# Altium footprint library Temperature Sensor.PcbLib: 38 footprints (part 2 of 3)
Each footprint in its own frame and in the unit in brackets; x right, y up, seen from the top. Pads: shape width x height; smd on the part's side, far side on the other; paste and mask are expansions set on the pad; w line width, h text height; cw(c..) or ccw(c..) is an arc to the next point about the centre after c.
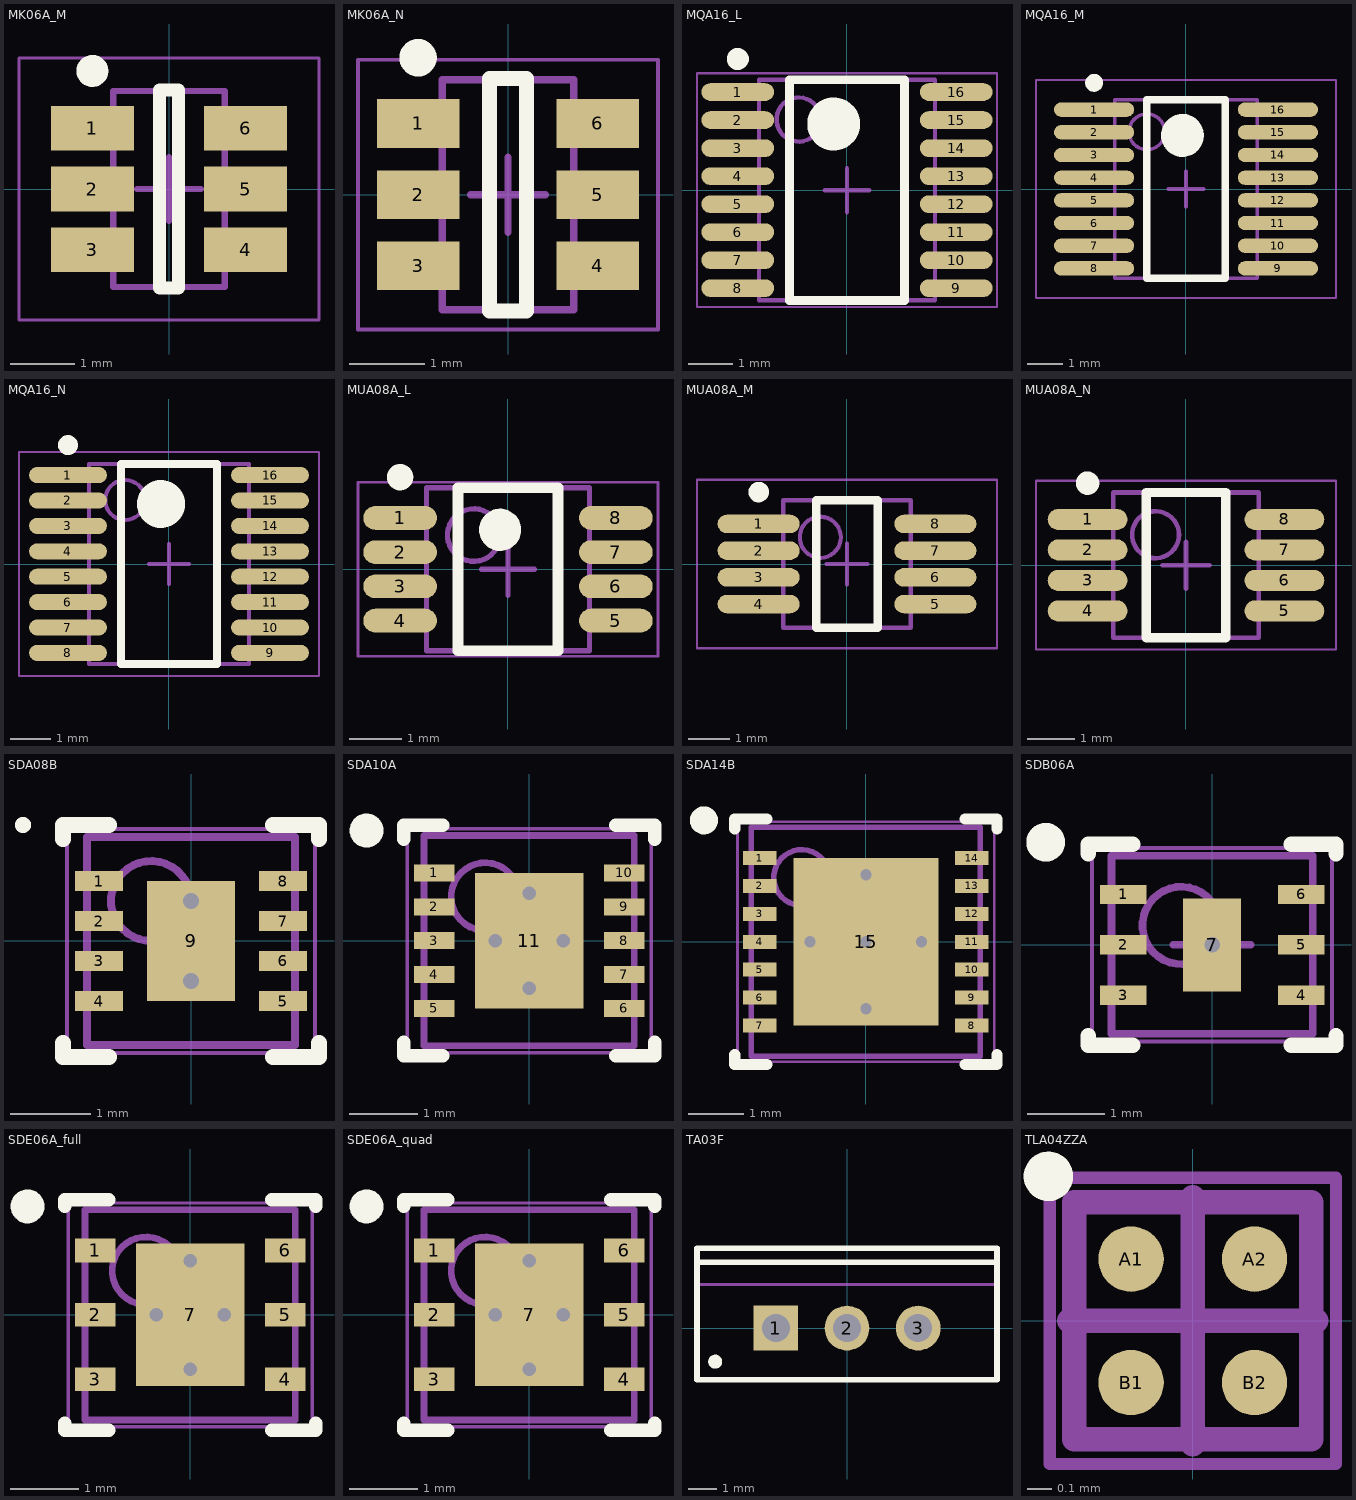
[diagram p1: the footprints below, top view; thin cyan lines are the x and y axes]

## MK06A_M [mm] "SOT23, 6-Leads, Body 3.0x1.7mm, Pitch 0.95mm, Lead Span 2.9mm, IPC Low Density"
height 1
pads (6):
  rect 1.3x0.7 smd: 1(-1.2,0.95) 2(-1.2,0) 3(-1.2,-0.95) 4(1.2,-0.95) 5(1.2,0) 6(1.2,0.95)
Top Overlay:
  circle w0.25: c-1.2,1.85 r0.125
  lines w0.2: -0.15,-1.55 -0.15,1.55 0.15,1.55 0.15,-1.55 -0.15,-1.55
Mechanical 13:
  lines w0.1: -0.875,-1.535 0.875,-1.535 0.875,1.535 -0.875,1.535 -0.875,-1.535
Mechanical 15:
  lines w0.05: -2.35,-2.05 2.35,-2.05 2.35,2.05 -2.35,2.05 -2.35,-2.05
  lines w0.1: -0.5,0 0.5,0 ; 0,-0.5 0,0.5
3D body: height 1, standoff 0.01, extent -0.875,-1.535 0.875,1.535

## MK06A_N [mm] "SOT23, 6-Leads, Body 3.0x1.7mm, Pitch 0.95mm, Lead Span 2.9mm, IPC Medium Density"
height 1
pads (6):
  rect 1.1x0.65 smd: 1(-1.2,0.95) 2(-1.2,0) 3(-1.2,-0.95) 4(1.2,-0.95) 5(1.2,0) 6(1.2,0.95)
Top Overlay:
  circle w0.25: c-1.2,1.825 r0.125
  lines w0.2: -0.25,-1.55 -0.25,1.55 0.25,1.55 0.25,-1.55 -0.25,-1.55
Mechanical 13:
  lines w0.1: -0.875,-1.535 0.875,-1.535 0.875,1.535 -0.875,1.535 -0.875,-1.535
Mechanical 15:
  lines w0.05: -2,-1.8 2,-1.8 2,1.8 -2,1.8 -2,-1.8
  lines w0.1: -0.5,0 0.5,0 ; 0,-0.5 0,0.5
3D body: height 1, standoff 0.01, extent -0.875,-1.535 0.875,1.535

## MQA16_L [mm] "SOP, 16-Leads, Body 4.9x3.9mm, Pitch 0.635mm, IPC High Density"
height 1.73
pads (16):
  oval 1.65x0.4 smd: 1(-2.475,2.222) 2(-2.475,1.587) 3(-2.475,0.953) 4(-2.475,0.318) 5(-2.475,-0.318) 6(-2.475,-0.953) 7(-2.475,-1.587) 8(-2.475,-2.222) 9(2.475,-2.222) 10(2.475,-1.587) 11(2.475,-0.953) 12(2.475,-0.318) 13(2.475,0.318) 14(2.475,0.953) 15(2.475,1.587) 16(2.475,2.222)
Top Overlay:
  circle w0.6: c-0.3,1.5 r0.3
  circle w0.25: c-2.475,2.973 r0.125
  lines w0.2: -1.3,-2.5 1.3,-2.5 1.3,2.5 -1.3,2.5 -1.3,-2.5
Mechanical 13:
  circle w0.1: c-1.095,1.6 r0.5
  lines w0.1: -1.995,-2.5 1.995,-2.5 1.995,2.5 -1.995,2.5 -1.995,-2.5
Mechanical 15:
  lines w0.05: -3.4,-2.65 3.4,-2.65 3.4,2.65 -3.4,2.65 -3.4,-2.65
  lines w0.1: -0.5,0 0.5,0 ; 0,-0.5 0,0.5
3D body: height 1.73, standoff 0.25, extent -1.995,-2.5 1.995,2.5

## MQA16_M [mm] "SOP, 16-Leads, Body 4.9x3.9mm, Pitch 0.635mm, IPC Low Density"
height 1.73
pads (16):
  oval 2.25x0.4 smd: 1(-2.575,2.222) 2(-2.575,1.587) 3(-2.575,0.953) 4(-2.575,0.318) 5(-2.575,-0.318) 6(-2.575,-0.953) 7(-2.575,-1.587) 8(-2.575,-2.222) 9(2.575,-2.222) 10(2.575,-1.587) 11(2.575,-0.953) 12(2.575,-0.318) 13(2.575,0.318) 14(2.575,0.953) 15(2.575,1.587) 16(2.575,2.222)
Top Overlay:
  circle w0.6: c-0.1,1.5 r0.3
  circle w0.25: c-2.575,2.973 r0.125
  lines w0.2: -1.1,-2.5 1.1,-2.5 1.1,2.5 -1.1,2.5 -1.1,-2.5
Mechanical 13:
  circle w0.1: c-1.095,1.6 r0.5
  lines w0.1: -1.995,-2.5 1.995,-2.5 1.995,2.5 -1.995,2.5 -1.995,-2.5
Mechanical 15:
  lines w0.05: -4.2,-3.05 4.2,-3.05 4.2,3.05 -4.2,3.05 -4.2,-3.05
  lines w0.1: -0.5,0 0.5,0 ; 0,-0.5 0,0.5
3D body: height 1.73, standoff 0.25, extent -1.995,-2.5 1.995,2.5

## MQA16_N [mm] "SOP, 16-Leads, Body 4.9x3.9mm, Pitch 0.635mm, IPC Medium Density"
height 1.73
pads (16):
  oval 1.95x0.4 smd: 1(-2.525,2.222) 2(-2.525,1.587) 3(-2.525,0.953) 4(-2.525,0.318) 5(-2.525,-0.318) 6(-2.525,-0.953) 7(-2.525,-1.587) 8(-2.525,-2.222) 9(2.525,-2.222) 10(2.525,-1.587) 11(2.525,-0.953) 12(2.525,-0.318) 13(2.525,0.318) 14(2.525,0.953) 15(2.525,1.587) 16(2.525,2.222)
Top Overlay:
  circle w0.6: c-0.2,1.5 r0.3
  circle w0.25: c-2.525,2.973 r0.125
  lines w0.2: -1.2,-2.5 1.2,-2.5 1.2,2.5 -1.2,2.5 -1.2,-2.5
Mechanical 13:
  circle w0.1: c-1.095,1.6 r0.5
  lines w0.1: -1.995,-2.5 1.995,-2.5 1.995,2.5 -1.995,2.5 -1.995,-2.5
Mechanical 15:
  lines w0.05: -3.75,-2.8 3.75,-2.8 3.75,2.8 -3.75,2.8 -3.75,-2.8
  lines w0.1: -0.5,0 0.5,0 ; 0,-0.5 0,0.5
3D body: height 1.73, standoff 0.25, extent -1.995,-2.5 1.995,2.5

## MUA08A_L [mm] "TSOP, 8-Leads, Body 3x3mm, Pitch 0.65mm, IPC High Density"
height 1.09
pads (8):
  oval 1.4x0.45 smd: 1(-2.05,0.975) 2(-2.05,0.325) 3(-2.05,-0.325) 4(-2.05,-0.975) 5(2.05,-0.975) 6(2.05,-0.325) 7(2.05,0.325) 8(2.05,0.975)
Top Overlay:
  circle w0.25: c-2.05,1.75 r0.125
  circle w0.4: c-0.15,0.75 r0.2
  lines w0.2: -0.95,-1.55 -0.95,1.55 0.95,1.55 0.95,-1.55 -0.95,-1.55
Mechanical 13:
  circle w0.1: c-0.65,0.65 r0.5
  lines w0.1: -1.55,-1.55 -1.55,1.55 1.55,1.55 1.55,-1.55 -1.55,-1.55
Mechanical 15:
  lines w0.05: -2.85,-1.65 -2.85,1.65 2.85,1.65 2.85,-1.65 -2.85,-1.65
  lines w0.1: -0.5,0 0.5,0 ; 0,-0.5 0,0.5
3D body: height 1.09, standoff 0.06, extent -1.55,-1.55 1.55,1.55

## MUA08A_M [mm] "TSOP, 8-Leads, Body 3x3mm, Pitch 0.65mm, IPC Low Density"
height 1.09
pads (8):
  oval 2x0.45 smd: 1(-2.15,0.975) 2(-2.15,0.325) 3(-2.15,-0.325) 4(-2.15,-0.975) 5(2.15,-0.975) 6(2.15,-0.325) 7(2.15,0.325) 8(2.15,0.975)
Top Overlay:
  circle w0.25: c-2.15,1.75 r0.125
  lines w0.2: -0.75,-1.55 0.75,-1.55 0.75,1.55 -0.75,1.55 -0.75,-1.55
Mechanical 13:
  circle w0.1: c-0.65,0.65 r0.5
  lines w0.1: -1.55,-1.55 1.55,-1.55 1.55,1.55 -1.55,1.55 -1.55,-1.55
Mechanical 15:
  lines w0.05: -3.65,-2.05 3.65,-2.05 3.65,2.05 -3.65,2.05 -3.65,-2.05
  lines w0.1: -0.5,0 0.5,0 ; 0,-0.5 0,0.5
3D body: height 1.09, standoff 0.06, extent -1.55,-1.55 1.55,1.55

## MUA08A_N [mm] "TSOP, 8-Leads, Body 3x3mm, Pitch 0.65mm, IPC Medium Density"
height 1.09
pads (8):
  oval 1.7x0.45 smd: 1(-2.1,0.975) 2(-2.1,0.325) 3(-2.1,-0.325) 4(-2.1,-0.975) 5(2.1,-0.975) 6(2.1,-0.325) 7(2.1,0.325) 8(2.1,0.975)
Top Overlay:
  circle w0.25: c-2.1,1.75 r0.125
  lines w0.2: -0.85,-1.55 -0.85,1.55 0.85,1.55 0.85,-1.55 -0.85,-1.55
Mechanical 13:
  circle w0.1: c-0.65,0.65 r0.5
  lines w0.1: -1.55,-1.55 -1.55,1.55 1.55,1.55 1.55,-1.55 -1.55,-1.55
Mechanical 15:
  lines w0.05: -3.2,-1.8 -3.2,1.8 3.2,1.8 3.2,-1.8 -3.2,-1.8
  lines w0.1: -0.5,0 0.5,0 ; 0,-0.5 0,0.5
3D body: height 1.09, standoff 0.06, extent -1.55,-1.55 1.55,1.55

## SDA08B [mm] "SON, 8-Leads, Body 2.5x2.5mm, Pitch 0.5mm, NSC Recommended"
height 0.8
pads (9):
  rect 0.6x0.25 smd paste-0.125 mask+0.051: 1(-1.15,0.75) 2(-1.15,0.25) 3(-1.15,-0.25) 4(-1.15,-0.75) 5(1.15,-0.75) 6(1.15,-0.25) 7(1.15,0.25) 8(1.15,0.75)
  rect 1.1x1.5 smd paste-0.55 mask+0.051: 9(0,0)
via 0,-0.5 diameter 0.5 hole 0.2
via 0,0.5 diameter 0.5 hole 0.2
Top Overlay:
  circle w0.1: c-2.1,1.45 r0.05
  lines w0.2: -1.6,-1.275 -1.6,-1.45 -1.025,-1.45 ; -1.6,1.275 -1.6,1.45 -1.025,1.45 ; 1.025,-1.45 1.6,-1.45 1.6,-1.275 ; 1.025,1.45 1.6,1.45 1.6,1.275
Top Paste:
  region: 0.95,0.875 0.95,0.625 1.65,0.625 1.65,0.875
  region: 0.95,0.375 0.95,0.125 1.65,0.125 1.65,0.375
  region: 0.95,-0.125 0.95,-0.375 1.65,-0.375 1.65,-0.125
  region: 0.95,-0.625 0.95,-0.875 1.65,-0.875 1.65,-0.625
  region: -1.65,-0.625 -1.65,-0.875 -0.95,-0.875 -0.95,-0.625
  region: -1.65,-0.125 -1.65,-0.375 -0.95,-0.375 -0.95,-0.125
  region: -1.65,0.375 -1.65,0.125 -0.95,0.125 -0.95,0.375
  region: -1.65,0.875 -1.65,0.625 -0.95,0.625 -0.95,0.875
  rectangle: -0.52,-0.713 0.52,0.713
Mechanical 13:
  circle w0.1: c-0.5,0.5 r0.5
  lines w0.1: -1.3,-1.3 1.3,-1.3 1.3,1.3 -1.3,1.3 -1.3,-1.3
Mechanical 15:
  lines w0.05: -1.55,-1.4 -1.55,1.4 1.55,1.4 1.55,-1.4 -1.55,-1.4
  lines w0.1: -0.5,0 0.5,0 ; 0,-0.5 0,0.5
3D body: height 0.8, standoff 0, extent -1.299,-1.299 1.299,1.299

## SDA10A [mm] "SON, 10-Leads, Body 3x3 mm, Pitch 0.5mm, NSC Recommended"
height 0.8
pads (11):
  rect 0.6x0.25 smd paste-0.125 mask+0.051: 1(-1.4,1) 2(-1.4,0.5) 3(-1.4,0) 4(-1.4,-0.5) 5(-1.4,-1) 6(1.4,-1) 7(1.4,-0.5) 8(1.4,0) 9(1.4,0.5) 10(1.4,1)
  rect 1.6x2 smd paste-0.05 mask+0.051: 11(0,0)
via -0.5,0 diameter 0.5 hole 0.2
via 0.5,0 diameter 0.5 hole 0.2
via 0,0.7 diameter 0.5 hole 0.2
via 0,-0.7 diameter 0.5 hole 0.2
Top Overlay:
  circle w0.25: c-2.4,1.625 r0.125
  lines w0.2: -1.85,-1.5 -1.85,-1.7 -1.275,-1.7 ; -1.85,1.5 -1.85,1.7 -1.275,1.7 ; 1.275,-1.7 1.85,-1.7 1.85,-1.5 ; 1.275,1.7 1.85,1.7 1.85,1.5
Top Paste:
  rectangle: -1.9,0.875 -1.2,1.125
  rectangle: -1.9,0.375 -1.2,0.625
  rectangle: -1.9,-0.125 -1.2,0.125
  rectangle: -1.9,-0.625 -1.2,-0.375
  rectangle: -1.9,-1.125 -1.2,-0.875
  region: 1.9,1.125 1.2,1.125 1.2,0.875 1.9,0.875
  region: 1.9,0.625 1.2,0.625 1.2,0.375 1.9,0.375
  region: 1.9,0.125 1.2,0.125 1.2,-0.125 1.9,-0.125
  region: 1.9,-0.375 1.2,-0.375 1.2,-0.625 1.9,-0.625
  region: 1.9,-0.875 1.2,-0.875 1.2,-1.125 1.9,-1.125
Mechanical 13:
  circle w0.1: c-0.65,0.65 r0.5
  lines w0.1: -1.55,-1.55 -1.55,1.55 1.55,1.55 1.55,-1.55 -1.55,-1.55
Mechanical 15:
  lines w0.05: -1.8,-1.65 -1.8,1.65 1.8,1.65 1.8,-1.65 -1.8,-1.65
  lines w0.1: -0.5,0 0.5,0 ; 0,-0.5 0,0.5
3D body: height 0.8, standoff 0, extent -1.55,-1.55 1.55,1.55

## SDA14B [mm] "SON, 14-Leads, Body 4x4mm, Pitch 0.5mm, NSC Recommended"
height 0.8
pads (15):
  rect 0.6x0.25 smd paste-0.125 mask+0.051: 1(-1.9,1.5) 2(-1.9,1) 3(-1.9,0.5) 4(-1.9,0) 5(-1.9,-0.5) 6(-1.9,-1) 7(-1.9,-1.5) 8(1.9,-1.5) 9(1.9,-1) 10(1.9,-0.5) 11(1.9,0) 12(1.9,0.5) 13(1.9,1) 14(1.9,1.5)
  rect 2.6x3 smd paste-1.3 mask+0.051: 15(0,0)
via 0,0 diameter 0.5 hole 0.2
via 1,0 diameter 0.5 hole 0.2
via -1,0 diameter 0.5 hole 0.2
via 0,-1.2 diameter 0.5 hole 0.2
via 0,1.2 diameter 0.5 hole 0.2
Top Overlay:
  circle w0.25: c-2.9,2.175 r0.125
  lines w0.2: -2.35,-2.025 -2.35,-2.2 -1.775,-2.2 ; -2.35,2.025 -2.35,2.2 -1.775,2.2 ; 1.775,-2.2 2.35,-2.2 2.35,-2.025 ; 1.775,2.2 2.35,2.2 2.35,2.025
Top Paste:
  region: 1.2,1.4 0.1,1.4 0.1,0.1 1.2,0.1
  region: 1.2,-0.1 0.1,-0.1 0.1,-1.4 1.2,-1.4
  rectangle: -1.2,-1.4 -0.1,-0.1
  rectangle: -1.2,0.1 -0.1,1.4
  region: -2.4,-1.375 -2.4,-1.625 -1.7,-1.625 -1.7,-1.375
  region: -2.4,-0.875 -2.4,-1.125 -1.7,-1.125 -1.7,-0.875
  region: -2.4,-0.375 -2.4,-0.625 -1.7,-0.625 -1.7,-0.375
  region: -2.4,0.125 -2.4,-0.125 -1.7,-0.125 -1.7,0.125
  region: -2.4,1.125 -2.4,0.875 -1.7,0.875 -1.7,1.125
  region: -2.4,1.625 -2.4,1.375 -1.7,1.375 -1.7,1.625
  region: 1.7,1.625 1.7,1.375 2.4,1.375 2.4,1.625
  region: 1.7,1.125 1.7,0.875 2.4,0.875 2.4,1.125
  region: 1.7,0.625 1.7,0.375 2.4,0.375 2.4,0.625
  region: 1.7,0.125 1.7,-0.125 2.4,-0.125 2.4,0.125
  region: 1.7,-0.375 1.7,-0.625 2.4,-0.625 2.4,-0.375
  region: 1.7,-0.875 1.7,-1.125 2.4,-1.125 2.4,-0.875
  region: 1.7,-1.375 1.7,-1.625 2.4,-1.625 2.4,-1.375
  region: -2.4,0.625 -2.4,0.375 -1.7,0.375 -1.7,0.625
Mechanical 13:
  circle w0.1: c-1.15,1.15 r0.5
  lines w0.1: -2.05,-2.05 -2.05,2.05 2.05,2.05 2.05,-2.05 -2.05,-2.05
Mechanical 15:
  lines w0.05: -2.3,-2.15 -2.3,2.15 2.3,2.15 2.3,-2.15 -2.3,-2.15
  lines w0.1: -0.5,0 0.5,0 ; 0,-0.5 0,0.5
3D body: height 0.8, standoff 0, extent -2.049,-2.049 2.049,2.049

## SDB06A [mm] "SON, 6-Leads, Body 2.2x2.5mm, Pitch 0.65mm, NSC Recommended (SC-70 Land)"
height 0.8
pads (7):
  rect 0.6x0.25 smd paste-0.125 mask+0.051: 1(-1.15,0.65) 2(-1.15,0) 3(-1.15,-0.65) 4(1.15,-0.65) 5(1.15,0) 6(1.15,0.65)
  rect 0.75x1.2 smd paste-0.6 mask+0.051: 7(0,0)
via 0,0 diameter 0.5 hole 0.2
Top Overlay:
  circle w0.25: c-2.15,1.325 r0.125
  lines w0.2: -1.6,-1.175 -1.6,-1.3 -1.025,-1.3 ; -1.6,1.175 -1.6,1.3 -1.025,1.3 ; 1.025,-1.3 1.6,-1.3 1.6,-1.175 ; 1.025,1.3 1.6,1.3 1.6,1.175
Top Paste:
  region: -0.355,0.57 -0.355,-0.57 0.355,-0.57 0.355,0.57
  region: -1.65,0.775 -1.65,0.525 -0.95,0.525 -0.95,0.775
  region: -1.65,0.125 -1.65,-0.125 -0.95,-0.125 -0.95,0.125
  region: -1.65,-0.525 -1.65,-0.775 -0.95,-0.775 -0.95,-0.525
  region: 0.95,-0.525 0.95,-0.775 1.65,-0.775 1.65,-0.525
  region: 0.95,0.125 0.95,-0.125 1.65,-0.125 1.65,0.125
  region: 0.95,0.775 0.95,0.525 1.65,0.525 1.65,0.775
Mechanical 13:
  circle w0.1: c-0.4,0.25 r0.5
  lines w0.1: -1.3,-1.15 1.3,-1.15 1.3,1.15 -1.3,1.15 -1.3,-1.15
Mechanical 15:
  lines w0.05: -1.55,-1.25 1.55,-1.25 1.55,1.25 -1.55,1.25 -1.55,-1.25
  lines w0.1: -0.5,0 0.5,0 ; 0,-0.5 0,0.5
3D body: height 0.8, standoff 0, extent -1.3,-1.15 1.3,1.15

## SDE06A_full [mm] "SON, 6-Leads, Body 3x3 mm, Pitch 0.95mm, NSC Recommended"
height 0.8
pads (7):
  rect 0.6x0.35 smd paste-0.175 mask+0.051: 1(-1.4,0.95) 2(-1.4,0) 3(-1.4,-0.95) 4(1.4,-0.95) 5(1.4,0) 6(1.4,0.95)
  rect 1.6x2.1 smd paste-0.8 mask+0.051: 7(0,0)
via 0,-0.8 diameter 0.5 hole 0.2
via 0.5,0 diameter 0.5 hole 0.2
via 0,0.8 diameter 0.5 hole 0.2
via -0.5,0 diameter 0.5 hole 0.2
Top Overlay:
  circle w0.25: c-2.4,1.6 r0.125
  lines w0.2: -1.85,-1.6 -1.85,-1.7 -1.2,-1.7 ; -1.85,1.6 -1.85,1.7 -1.2,1.7 ; 1.2,-1.7 1.85,-1.7 1.85,-1.6 ; 1.2,1.7 1.85,1.7 1.85,1.6
Top Paste:
  rectangle: -0.76,-1 0.76,1
  region: 1.9,1.125 1.2,1.125 1.2,0.775 1.9,0.775
  region: 1.9,0.175 1.2,0.175 1.2,-0.175 1.9,-0.175
  region: 1.9,-0.775 1.2,-0.775 1.2,-1.125 1.9,-1.125
  rectangle: -1.9,-1.125 -1.2,-0.775
  rectangle: -1.9,-0.175 -1.2,0.175
  rectangle: -1.9,0.775 -1.2,1.125
Mechanical 13:
  circle w0.1: c-0.65,0.65 r0.5
  lines w0.1: -1.55,-1.55 1.55,-1.55 1.55,1.55 -1.55,1.55 -1.55,-1.55
Mechanical 15:
  lines w0.05: -1.8,-1.65 -1.8,1.65 1.8,1.65 1.8,-1.65 -1.8,-1.65
  lines w0.1: -0.5,0 0.5,0 ; 0,-0.5 0,0.5
3D body: height 0.8, standoff 0, extent -1.55,-1.55 1.55,1.55

## SDE06A_quad [mm] "SON, 6-Leads, Body 3x3 mm, Pitch 0.95mm, NSC Recommended"
height 0.8
pads (7):
  rect 0.6x0.35 smd paste-0.175 mask+0.051: 1(-1.4,0.95) 2(-1.4,0) 3(-1.4,-0.95) 4(1.4,-0.95) 5(1.4,0) 6(1.4,0.95)
  rect 1.6x2.1 smd paste-0.8 mask+0.051: 7(0,0)
via -0.5,0 diameter 0.5 hole 0.2
via 0,0.8 diameter 0.5 hole 0.2
via 0.5,0 diameter 0.5 hole 0.2
via 0,-0.8 diameter 0.5 hole 0.2
Top Overlay:
  circle w0.25: c-2.4,1.6 r0.125
  lines w0.2: -1.85,-1.6 -1.85,-1.7 -1.2,-1.7 ; -1.85,1.6 -1.85,1.7 -1.2,1.7 ; 1.2,-1.7 1.85,-1.7 1.85,-1.6 ; 1.2,1.7 1.85,1.7 1.85,1.6
Top Paste:
  rectangle: -1.9,0.775 -1.2,1.125
  rectangle: -1.9,-0.175 -1.2,0.175
  rectangle: -1.9,-1.125 -1.2,-0.775
  region: 1.9,-0.775 1.2,-0.775 1.2,-1.125 1.9,-1.125
  region: 1.9,0.175 1.2,0.175 1.2,-0.175 1.9,-0.175
  region: 1.9,1.125 1.2,1.125 1.2,0.775 1.9,0.775
  region: -0.1,1.05 -0.8,1.05 -0.8,0.1 -0.1,0.1
  rectangle: 0.1,0.1 0.8,1.05
  rectangle: 0.1,-1.05 0.8,-0.1
  region: -0.1,-0.1 -0.8,-0.1 -0.8,-1.05 -0.1,-1.05
Mechanical 13:
  circle w0.1: c-0.65,0.65 r0.5
  lines w0.1: -1.55,-1.55 -1.55,1.55 1.55,1.55 1.55,-1.55 -1.55,-1.55
Mechanical 15:
  lines w0.05: -1.8,-1.65 1.8,-1.65 1.8,1.65 -1.8,1.65 -1.8,-1.65
  lines w0.1: -0.5,0 0.5,0 ; 0,-0.5 0,0.5
3D body: height 0.8, standoff 0, extent -1.55,-1.55 1.55,1.55

## TA03F [mm] "TO, Thru-Hole, Vertical, Heatsink Mounted; 3 In-Line Leads; Pitch 2.54 mm"
height 19.4
pads (3):
  rect 1.6x1.6 hole 1: 1(-2.54,0)
  round 1.6 hole 1: 2(0,0) 3(2.54,0)
Top Overlay:
  circle w0.25: c-4.7,-1.2 r0.125
  lines w0.2: -5.35,2.35 5.35,2.35 ; -5.35,-1.85 -5.35,2.85 5.35,2.85 5.35,-1.85 -5.35,-1.85
Mechanical 13:
  lines w0.1: -5.35,1.55 5.35,1.55 ; -5.35,-1.85 5.35,-1.85 5.35,2.85 -5.35,2.85 -5.35,-1.85
Mechanical 15:
  lines w0.1: -0.5,0 0.5,0 ; 0,-0.5 0,0.5
3D body: height 12.9, standoff 4, extent -5.4,-1.9 5.4,2.9
3D body: height 19.4, standoff 12.9, extent -5.349,1.551 5.349,2.849

## TLA04ZZA [mm] "Micro SMD, 4-Leads, Body 0.96x0.96mm, Pitch 0.5mm, NSC Recommended"
height 0.68
pads (4):
  round 0.265 smd paste-0.132 mask+0.05: A1(-0.25,0.25) A2(0.25,0.25) B1(-0.25,-0.25) B2(0.25,-0.25)
Top Overlay:
  circle w0.1: c-0.585,0.585 r0.05
Top Paste:
  circle w0.05: c-0.325,0.175 r0.025
  circle w0.05: c-0.175,0.325 r0.025
  circle w0.05: c-0.175,0.175 r0.025
  circle w0.05: c-0.325,0.325 r0.025
  circle w0.05: c0.175,0.175 r0.025
  circle w0.05: c0.325,0.325 r0.025
  circle w0.05: c0.325,0.175 r0.025
  circle w0.05: c0.175,0.325 r0.025
  circle w0.05: c-0.325,-0.325 r0.025
  circle w0.05: c-0.175,-0.175 r0.025
  circle w0.05: c-0.175,-0.325 r0.025
  circle w0.05: c-0.325,-0.175 r0.025
  circle w0.05: c0.175,-0.325 r0.025
  circle w0.05: c0.325,-0.175 r0.025
  circle w0.05: c0.325,-0.325 r0.025
  circle w0.05: c0.175,-0.175 r0.025
  region: -0.325,0.325 -0.325,0.175 -0.175,0.175 -0.175,0.325
  region: -0.325,0.175 -0.325,0.325 -0.375,0.325 -0.375,0.175
  rectangle: -0.325,0.325 -0.175,0.375
  region: -0.175,0.325 -0.175,0.175 -0.125,0.175 -0.125,0.325
  region: -0.175,0.175 -0.325,0.175 -0.325,0.125 -0.175,0.125
  region: 0.175,0.325 0.175,0.175 0.325,0.175 0.325,0.325
  region: 0.175,0.175 0.175,0.325 0.125,0.325 0.125,0.175
  rectangle: 0.175,0.325 0.325,0.375
  region: 0.325,0.325 0.325,0.175 0.375,0.175 0.375,0.325
  region: 0.325,0.175 0.175,0.175 0.175,0.125 0.325,0.125
  region: -0.325,-0.175 -0.325,-0.325 -0.175,-0.325 -0.175,-0.175
  region: -0.325,-0.325 -0.325,-0.175 -0.375,-0.175 -0.375,-0.325
  rectangle: -0.325,-0.175 -0.175,-0.125
  region: -0.175,-0.175 -0.175,-0.325 -0.125,-0.325 -0.125,-0.175
  region: -0.175,-0.325 -0.325,-0.325 -0.325,-0.375 -0.175,-0.375
  region: 0.175,-0.175 0.175,-0.325 0.325,-0.325 0.325,-0.175
  region: 0.175,-0.325 0.175,-0.175 0.125,-0.175 0.125,-0.325
  rectangle: 0.175,-0.175 0.325,-0.125
  region: 0.325,-0.175 0.325,-0.325 0.375,-0.325 0.375,-0.175
  region: 0.325,-0.325 0.175,-0.325 0.175,-0.375 0.325,-0.375
Mechanical 13:
  lines w0.1: -0.48,-0.48 -0.48,0.48 0.48,0.48 0.48,-0.48 -0.48,-0.48
Mechanical 15:
  lines w0.05: -0.58,-0.58 -0.58,0.58 0.58,0.58 0.58,-0.58 -0.58,-0.58
  lines w0.1: -0.5,0 0.5,0 ; 0,-0.5 0,0.5
3D body: height 0.68, standoff 0, extent -0.48,-0.48 0.48,0.48